# Altium schematic symbol library WE-LHMI.SchLib: 193 symbols (part 4 of 4)
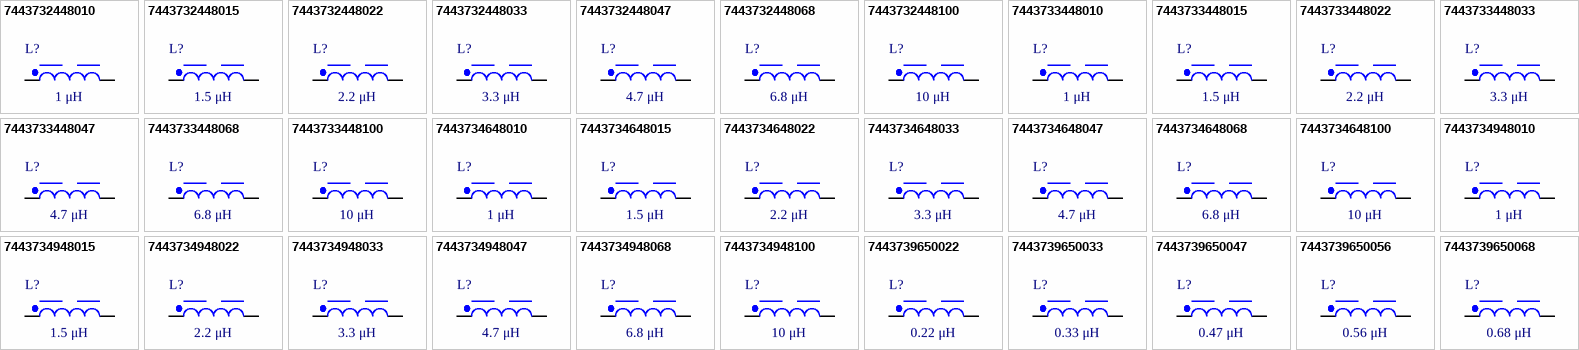
[diagram p7: symbols 7443732448010 to 7443739650068]

## 7443732448047
designator L?, comment 4.7 μH
WE-LHMI SMT Power Inductor, size 4020 HT, 4.7 μH, 3.3 A, 115 mΩ; Manufacturer Part Number: 7443732448047; Manufacturer: Wurth Elektronik; Case/Size Code: 4020 HT; DC Resistance Max: 115 mΩ; Performance Rated Current: 3.3 A; Saturation Current @ 10%: 2.2 A; Saturation Current @ 30%: 4.7 A; Self Resonant Frequency: 25 MHz; Category: Power Inductors; Match Code: WE-LHMI; ComponentLink1Description: Website Link; ComponentLink1URL: https://www.we-online.com/redexpert/article/7443732448047?ad; ComponentLink2Description: Datasheet Link; ComponentLink2URL: https://www.we-online.com/redexpert/spec/7443732448047?ad; Mount: Surface Mount; Min Operating Temperature: -55 °C; Max Operating Temperature: 150 °C; Packaging: Tape and Reel; Length: 4.45 mm; Width: 4.06 mm; Height: 1.8 mm; Inductance: 4.7 μH
footprint WE-LHMI_4020 HT
simulation model 4020HT_7443732448047_4.7u
pins: 1, 2

## 7443732448068
designator L?, comment 6.8 μH
WE-LHMI SMT Power Inductor, size 4020 HT, 6.8 μH, 2.7 A, 228 mΩ; Manufacturer Part Number: 7443732448068; Manufacturer: Wurth Elektronik; Case/Size Code: 4020 HT; DC Resistance Max: 228 mΩ; Performance Rated Current: 2.7 A; Saturation Current @ 10%: 1.6 A; Saturation Current @ 30%: 3 A; Self Resonant Frequency: 19 MHz; Category: Power Inductors; Match Code: WE-LHMI; ComponentLink1Description: Website Link; ComponentLink1URL: https://www.we-online.com/redexpert/article/7443732448068?ad; ComponentLink2Description: Datasheet Link; ComponentLink2URL: https://www.we-online.com/redexpert/spec/7443732448068?ad; Mount: Surface Mount; Min Operating Temperature: -55 °C; Max Operating Temperature: 150 °C; Packaging: Tape and Reel; Length: 4.45 mm; Width: 4.06 mm; Height: 1.8 mm; Inductance: 6.8 μH
footprint WE-LHMI_4020 HT
simulation model 4020HT_7443732448068_6.8u
pins: 1, 2

## 7443732448100
designator L?, comment 10 μH
WE-LHMI SMT Power Inductor, size 4020 HT, 10 μH, 2.4 A, 243 mΩ; Manufacturer Part Number: 7443732448100; Manufacturer: Wurth Elektronik; Case/Size Code: 4020 HT; DC Resistance Max: 243 mΩ; Performance Rated Current: 2.4 A; Saturation Current @ 10%: 1 A; Self Resonant Frequency: 16 MHz; Category: Power Inductors; Match Code: WE-LHMI; ComponentLink1Description: Website Link; ComponentLink1URL: https://www.we-online.com/redexpert/article/7443732448100?ad; ComponentLink2Description: Datasheet Link; ComponentLink2URL: https://www.we-online.com/redexpert/spec/7443732448100?ad; Mount: Surface Mount; Min Operating Temperature: -55 °C; Max Operating Temperature: 150 °C; Packaging: Tape and Reel; Length: 4.45 mm; Width: 4.06 mm; Height: 1.8 mm; Inductance: 10 μH; Saturation Current @ 30%: 2.4 A
footprint WE-LHMI_4020 HT
simulation model 4020HT_7443732448100_10u
pins: 1, 2

## 7443733448010
designator L?, comment 1 μH
WE-LHMI SMT Power Inductor, size 5020 HT, 1 μH, 9.5 A, 17.5 mΩ; Manufacturer Part Number: 7443733448010; Manufacturer: Wurth Elektronik; Case/Size Code: 5020 HT; DC Resistance Max: 17.5 mΩ; Performance Rated Current: 9.5 A; Saturation Current @ 10%: 5.4 A; Saturation Current @ 30%: 12 A; Self Resonant Frequency: 62 MHz; Category: Power Inductors; Match Code: WE-LHMI; ComponentLink1Description: Website Link; ComponentLink1URL: https://www.we-online.com/redexpert/article/7443733448010?ad; ComponentLink2Description: Datasheet Link; ComponentLink2URL: https://www.we-online.com/redexpert/spec/7443733448010?ad; Mount: Surface Mount; Min Operating Temperature: -55 °C; Max Operating Temperature: 150 °C; Packaging: Tape and Reel; Length: 5.7 mm; Width: 5.2 mm; Height: 1.8 mm; Inductance: 1 μH
footprint WE-LHMI_5020 HT
simulation model 5020HT_7443733448010_1u
pins: 1, 2

## 7443733448015
designator L?, comment 1.5 μH
WE-LHMI SMT Power Inductor, size 5020 HT, 1.5 μH, 5.7 A, 43 mΩ; Manufacturer Part Number: 7443733448015; Manufacturer: Wurth Elektronik; Case/Size Code: 5020 HT; DC Resistance Max: 43 mΩ; Performance Rated Current: 5.7 A; Saturation Current @ 10%: 4.2 A; Saturation Current @ 30%: 9.5 A; Self Resonant Frequency: 54 MHz; Category: Power Inductors; Match Code: WE-LHMI; ComponentLink1Description: Website Link; ComponentLink1URL: https://www.we-online.com/redexpert/article/7443733448015?ad; ComponentLink2Description: Datasheet Link; ComponentLink2URL: https://www.we-online.com/redexpert/spec/7443733448015?ad; Mount: Surface Mount; Min Operating Temperature: -55 °C; Max Operating Temperature: 150 °C; Packaging: Tape and Reel; Length: 5.7 mm; Width: 5.2 mm; Height: 1.8 mm; Inductance: 1.5 μH
footprint WE-LHMI_5020 HT
simulation model 5020HT_7443733448015_1.5u
pins: 1, 2

## 7443733448022
designator L?, comment 2.2 μH
WE-LHMI SMT Power Inductor, size 5020 HT, 2.2 μH, 6 A, 38 mΩ; Manufacturer Part Number: 7443733448022; Manufacturer: Wurth Elektronik; Case/Size Code: 5020 HT; DC Resistance Max: 38 mΩ; Performance Rated Current: 6 A; Saturation Current @ 10%: 3 A; Saturation Current @ 30%: 6.7 A; Self Resonant Frequency: 40 MHz; Category: Power Inductors; Match Code: WE-LHMI; ComponentLink1Description: Website Link; ComponentLink1URL: https://www.we-online.com/redexpert/article/7443733448022?ad; ComponentLink2Description: Datasheet Link; ComponentLink2URL: https://www.we-online.com/redexpert/spec/7443733448022?ad; Mount: Surface Mount; Min Operating Temperature: -55 °C; Max Operating Temperature: 150 °C; Packaging: Tape and Reel; Length: 5.7 mm; Width: 5.2 mm; Height: 1.8 mm; Inductance: 2.2 μH
footprint WE-LHMI_5020 HT
simulation model 5020HT_7443733448022_2.2u
pins: 1, 2

## 7443733448033
designator L?, comment 3.3 μH
WE-LHMI SMT Power Inductor, size 5020 HT, 3.3 μH, 4.9 A, 60 mΩ; Manufacturer Part Number: 7443733448033; Manufacturer: Wurth Elektronik; Case/Size Code: 5020 HT; DC Resistance Max: 60 mΩ; Performance Rated Current: 4.9 A; Saturation Current @ 10%: 2.8 A; Saturation Current @ 30%: 6.5 A; Self Resonant Frequency: 36 MHz; Category: Power Inductors; Match Code: WE-LHMI; ComponentLink1Description: Website Link; ComponentLink1URL: https://www.we-online.com/redexpert/article/7443733448033?ad; ComponentLink2Description: Datasheet Link; ComponentLink2URL: https://www.we-online.com/redexpert/spec/7443733448033?ad; Mount: Surface Mount; Min Operating Temperature: -55 °C; Max Operating Temperature: 150 °C; Packaging: Tape and Reel; Length: 5.7 mm; Width: 5.2 mm; Height: 1.8 mm; Inductance: 3.3 μH
footprint WE-LHMI_5020 HT
simulation model 5020HT_7443733448033_3.3u
pins: 1, 2

## 7443733448047
designator L?, comment 4.7 μH
WE-LHMI SMT Power Inductor, size 5020 HT, 4.7 μH, 3.6 A, 88 mΩ; Manufacturer Part Number: 7443733448047; Manufacturer: Wurth Elektronik; Case/Size Code: 5020 HT; DC Resistance Max: 88 mΩ; Performance Rated Current: 3.6 A; Saturation Current @ 10%: 2.6 A; Saturation Current @ 30%: 5.8 A; Self Resonant Frequency: 30 MHz; Category: Power Inductors; Match Code: WE-LHMI; ComponentLink1Description: Website Link; ComponentLink1URL: https://www.we-online.com/redexpert/article/7443733448047?ad; ComponentLink2Description: Datasheet Link; ComponentLink2URL: https://www.we-online.com/redexpert/spec/7443733448047?ad; Mount: Surface Mount; Min Operating Temperature: -55 °C; Max Operating Temperature: 150 °C; Packaging: Tape and Reel; Length: 5.7 mm; Width: 5.2 mm; Height: 1.8 mm; Inductance: 4.7 μH
footprint WE-LHMI_5020 HT
simulation model 5020HT_7443733448047_4.7u
pins: 1, 2

## 7443733448068
designator L?, comment 6.8 μH
WE-LHMI SMT Power Inductor, size 5020 HT, 6.8 μH, 3.5 A, 159 mΩ; Manufacturer Part Number: 7443733448068; Manufacturer: Wurth Elektronik; Case/Size Code: 5020 HT; DC Resistance Max: 159 mΩ; Performance Rated Current: 3.5 A; Saturation Current @ 10%: 1.9 A; Saturation Current @ 30%: 4.5 A; Self Resonant Frequency: 26 MHz; Category: Power Inductors; Match Code: WE-LHMI; ComponentLink1Description: Website Link; ComponentLink1URL: https://www.we-online.com/redexpert/article/7443733448068?ad; ComponentLink2Description: Datasheet Link; ComponentLink2URL: https://www.we-online.com/redexpert/spec/7443733448068?ad; Mount: Surface Mount; Min Operating Temperature: -55 °C; Max Operating Temperature: 150 °C; Packaging: Tape and Reel; Length: 5.7 mm; Width: 5.2 mm; Height: 1.8 mm; Inductance: 6.8 μH
footprint WE-LHMI_5020 HT
simulation model 5020HT_7443733448068_6.8u
pins: 1, 2

## 7443733448100
designator L?, comment 10 μH
WE-LHMI SMT Power Inductor, size 5020 HT, 10 μH, 2.6 A, 230 mΩ; Manufacturer Part Number: 7443733448100; Manufacturer: Wurth Elektronik; Case/Size Code: 5020 HT; DC Resistance Max: 230 mΩ; Performance Rated Current: 2.6 A; Saturation Current @ 10%: 1.2 A; Saturation Current @ 30%: 3 A; Self Resonant Frequency: 20 MHz; Category: Power Inductors; Match Code: WE-LHMI; ComponentLink1Description: Website Link; ComponentLink1URL: https://www.we-online.com/redexpert/article/7443733448100?ad; ComponentLink2Description: Datasheet Link; ComponentLink2URL: https://www.we-online.com/redexpert/spec/7443733448100?ad; Mount: Surface Mount; Min Operating Temperature: -55 °C; Max Operating Temperature: 150 °C; Packaging: Tape and Reel; Length: 5.7 mm; Width: 5.2 mm; Height: 1.8 mm; Inductance: 10 μH
footprint WE-LHMI_5020 HT
simulation model 5020HT_7443733448100_10u
pins: 1, 2

## 7443734648010
designator L?, comment 1 μH
WE-LHMI SMT Power Inductor, size 7030 HT, 1 μH, 13.5 A, 7.4 mΩ; Manufacturer Part Number: 7443734648010; Manufacturer: Wurth Elektronik; Case/Size Code: 7030 HT; DC Resistance Max: 7.4 mΩ; Performance Rated Current: 13.5 A; Saturation Current @ 10%: 8.5 A; Saturation Current @ 30%: 18.5 A; Self Resonant Frequency: 53 MHz; Category: Power Inductors; Match Code: WE-LHMI; ComponentLink1Description: Website Link; ComponentLink1URL: https://www.we-online.com/redexpert/article/7443734648010?ad; ComponentLink2Description: Datasheet Link; ComponentLink2URL: https://www.we-online.com/redexpert/spec/7443734648010?ad; Mount: Surface Mount; Min Operating Temperature: -55 °C; Max Operating Temperature: 150 °C; Packaging: Tape and Reel; Length: 7.3 mm; Width: 6.6 mm; Height: 2.8 mm; Inductance: 1 μH
footprint WE-LHMI_7030 HT
simulation model 7030HT_7443734648010_1u
pins: 1, 2

## 7443734648015
designator L?, comment 1.5 μH
WE-LHMI SMT Power Inductor, size 7030 HT, 1.5 μH, 11.8 A, 12.1 mΩ; Manufacturer Part Number: 7443734648015; Manufacturer: Wurth Elektronik; Case/Size Code: 7030 HT; DC Resistance Max: 12.1 mΩ; Performance Rated Current: 11.8 A; Saturation Current @ 10%: 8 A; Saturation Current @ 30%: 17 A; Self Resonant Frequency: 44 MHz; Category: Power Inductors; Match Code: WE-LHMI; ComponentLink1Description: Website Link; ComponentLink1URL: https://www.we-online.com/redexpert/article/7443734648015?ad; ComponentLink2Description: Datasheet Link; ComponentLink2URL: https://www.we-online.com/redexpert/spec/7443734648015?ad; Mount: Surface Mount; Min Operating Temperature: -55 °C; Max Operating Temperature: 150 °C; Packaging: Tape and Reel; Length: 7.3 mm; Width: 6.6 mm; Height: 2.8 mm; Inductance: 1.5 μH
footprint WE-LHMI_7030 HT
simulation model 7030HT_7443734648015_1.5u
pins: 1, 2

## 7443734648022
designator L?, comment 2.2 μH
WE-LHMI SMT Power Inductor, size 7030 HT, 2.2 μH, 9.7 A, 17 mΩ; Manufacturer Part Number: 7443734648022; Manufacturer: Wurth Elektronik; Case/Size Code: 7030 HT; DC Resistance Max: 17 mΩ; Performance Rated Current: 9.7 A; Saturation Current @ 10%: 6.8 A; Saturation Current @ 30%: 14.7 A; Self Resonant Frequency: 34 MHz; Category: Power Inductors; Match Code: WE-LHMI; ComponentLink1Description: Website Link; ComponentLink1URL: https://www.we-online.com/redexpert/article/7443734648022?ad; ComponentLink2Description: Datasheet Link; ComponentLink2URL: https://www.we-online.com/redexpert/spec/7443734648022?ad; Mount: Surface Mount; Min Operating Temperature: -55 °C; Max Operating Temperature: 150 °C; Packaging: Tape and Reel; Length: 7.3 mm; Width: 6.6 mm; Height: 2.8 mm; Inductance: 2.2 μH
footprint WE-LHMI_7030 HT
simulation model 7030HT_7443734648022_2.2u
pins: 1, 2

## 7443734648033
designator L?, comment 3.3 μH
WE-LHMI SMT Power Inductor, size 7030 HT, 3.3 μH, 7.6 A, 22 mΩ; Manufacturer Part Number: 7443734648033; Manufacturer: Wurth Elektronik; Case/Size Code: 7030 HT; DC Resistance Max: 22 mΩ; Performance Rated Current: 7.6 A; Saturation Current @ 10%: 5.6 A; Saturation Current @ 30%: 10.8 A; Self Resonant Frequency: 28 MHz; Category: Power Inductors; Match Code: WE-LHMI; ComponentLink1Description: Website Link; ComponentLink1URL: https://www.we-online.com/redexpert/article/7443734648033?ad; ComponentLink2Description: Datasheet Link; ComponentLink2URL: https://www.we-online.com/redexpert/spec/7443734648033?ad; Mount: Surface Mount; Min Operating Temperature: -55 °C; Max Operating Temperature: 150 °C; Packaging: Tape and Reel; Length: 7.3 mm; Width: 6.6 mm; Height: 2.8 mm; Inductance: 3.3 μH
footprint WE-LHMI_7030 HT
simulation model 7030HT_7443734648033_3.3u
pins: 1, 2

## 7443734648047
designator L?, comment 4.7 μH
WE-LHMI SMT Power Inductor, size 7030 HT, 4.7 μH, 6.1 A, 40 mΩ; Manufacturer Part Number: 7443734648047; Manufacturer: Wurth Elektronik; Case/Size Code: 7030 HT; DC Resistance Max: 40 mΩ; Performance Rated Current: 6.1 A; Saturation Current @ 10%: 4.4 A; Saturation Current @ 30%: 9.8 A; Self Resonant Frequency: 24 MHz; Category: Power Inductors; Match Code: WE-LHMI; ComponentLink1Description: Website Link; ComponentLink1URL: https://www.we-online.com/redexpert/article/7443734648047?ad; ComponentLink2Description: Datasheet Link; ComponentLink2URL: https://www.we-online.com/redexpert/spec/7443734648047?ad; Mount: Surface Mount; Min Operating Temperature: -55 °C; Max Operating Temperature: 150 °C; Packaging: Tape and Reel; Length: 7.3 mm; Width: 6.6 mm; Height: 2.8 mm; Inductance: 4.7 μH
footprint WE-LHMI_7030 HT
simulation model 7030HT_7443734648047_4.7u
pins: 1, 2

## 7443734648068
designator L?, comment 6.8 μH
WE-LHMI SMT Power Inductor, size 7030 HT, 6.8 μH, 5.2 A, 48 mΩ; Manufacturer Part Number: 7443734648068; Manufacturer: Wurth Elektronik; Case/Size Code: 7030 HT; DC Resistance Max: 48 mΩ; Performance Rated Current: 5.2 A; Saturation Current @ 10%: 3.5 A; Saturation Current @ 30%: 7.6 A; Self Resonant Frequency: 19 MHz; Category: Power Inductors; Match Code: WE-LHMI; ComponentLink1Description: Website Link; ComponentLink1URL: https://www.we-online.com/redexpert/article/7443734648068?ad; ComponentLink2Description: Datasheet Link; ComponentLink2URL: https://www.we-online.com/redexpert/spec/7443734648068?ad; Mount: Surface Mount; Min Operating Temperature: -55 °C; Max Operating Temperature: 150 °C; Packaging: Tape and Reel; Length: 7.3 mm; Width: 6.6 mm; Height: 2.8 mm; Inductance: 6.8 μH
footprint WE-LHMI_7030 HT
simulation model 7030HT_7443734648068_6.8u
pins: 1, 2

## 7443734648100
designator L?, comment 10 μH
WE-LHMI SMT Power Inductor, size 7030 HT, 10 μH, 4.3 A, 78 mΩ; Manufacturer Part Number: 7443734648100; Manufacturer: Wurth Elektronik; Case/Size Code: 7030 HT; DC Resistance Max: 78 mΩ; Performance Rated Current: 4.3 A; Saturation Current @ 10%: 2.8 A; Saturation Current @ 30%: 6 A; Self Resonant Frequency: 15 MHz; Category: Power Inductors; Match Code: WE-LHMI; ComponentLink1Description: Website Link; ComponentLink1URL: https://www.we-online.com/redexpert/article/7443734648100?ad; ComponentLink2Description: Datasheet Link; ComponentLink2URL: https://www.we-online.com/redexpert/spec/7443734648100?ad; Mount: Surface Mount; Min Operating Temperature: -55 °C; Max Operating Temperature: 150 °C; Packaging: Tape and Reel; Length: 7.3 mm; Width: 6.6 mm; Height: 2.8 mm; Inductance: 10 μH
footprint WE-LHMI_7030 HT
simulation model 7030HT_7443734648100_10u
pins: 1, 2

## 7443734948010
designator L?, comment 1 μH
WE-LHMI SMT Power Inductor, size 7050 HT, 1 μH, 18 A, 6.5 mΩ; Manufacturer Part Number: 7443734948010; Manufacturer: Wurth Elektronik; Case/Size Code: 7050 HT; DC Resistance Max: 6.5 mΩ; Performance Rated Current: 18 A; Saturation Current @ 10%: 8.5 A; Saturation Current @ 30%: 17.8 A; Self Resonant Frequency: 44 MHz; Category: Power Inductors; Match Code: WE-LHMI; ComponentLink1Description: Website Link; ComponentLink1URL: https://www.we-online.com/redexpert/article/7443734948010?ad; ComponentLink2Description: Datasheet Link; ComponentLink2URL: https://www.we-online.com/redexpert/spec/7443734948010?ad; Mount: Surface Mount; Min Operating Temperature: -55 °C; Max Operating Temperature: 150 °C; Packaging: Tape and Reel; Length: 7.3 mm; Width: 6.6 mm; Height: 4.8 mm; Inductance: 1 μH
footprint WE-LHMI_7050 HT
simulation model 7050HT_7443734948010_1u
pins: 1, 2

## 7443734948015
designator L?, comment 1.5 μH
WE-LHMI SMT Power Inductor, size 7050 HT, 1.5 μH, 15.8 A, 8.5 mΩ; Manufacturer Part Number: 7443734948015; Manufacturer: Wurth Elektronik; Case/Size Code: 7050 HT; DC Resistance Max: 8.5 mΩ; Performance Rated Current: 15.8 A; Saturation Current @ 10%: 7.5 A; Saturation Current @ 30%: 15.5 A; Self Resonant Frequency: 38 MHz; Category: Power Inductors; Match Code: WE-LHMI; ComponentLink1Description: Website Link; ComponentLink1URL: https://www.we-online.com/redexpert/article/7443734948015?ad; ComponentLink2Description: Datasheet Link; ComponentLink2URL: https://www.we-online.com/redexpert/spec/7443734948015?ad; Mount: Surface Mount; Min Operating Temperature: -55 °C; Max Operating Temperature: 150 °C; Packaging: Tape and Reel; Length: 7.3 mm; Width: 6.6 mm; Height: 4.8 mm; Inductance: 1.5 μH
footprint WE-LHMI_7050 HT
simulation model 7050HT_7443734948015_1.5u
pins: 1, 2

## 7443734948022
designator L?, comment 2.2 μH
WE-LHMI SMT Power Inductor, size 7050 HT, 2.2 μH, 12.3 A, 14 mΩ; Manufacturer Part Number: 7443734948022; Manufacturer: Wurth Elektronik; Case/Size Code: 7050 HT; DC Resistance Max: 14 mΩ; Performance Rated Current: 12.3 A; Saturation Current @ 10%: 6.5 A; Saturation Current @ 30%: 12.8 A; Self Resonant Frequency: 31 MHz; Category: Power Inductors; Match Code: WE-LHMI; ComponentLink1Description: Website Link; ComponentLink1URL: https://www.we-online.com/redexpert/article/7443734948022?ad; ComponentLink2Description: Datasheet Link; ComponentLink2URL: https://www.we-online.com/redexpert/spec/7443734948022?ad; Mount: Surface Mount; Min Operating Temperature: -55 °C; Max Operating Temperature: 150 °C; Packaging: Tape and Reel; Length: 7.3 mm; Width: 6.6 mm; Height: 4.8 mm; Inductance: 2.2 μH
footprint WE-LHMI_7050 HT
simulation model 7050HT_7443734948022_2.2u
pins: 1, 2

## 7443734948033
designator L?, comment 3.3 μH
WE-LHMI SMT Power Inductor, size 7050 HT, 3.3 μH, 10.6 A, 23 mΩ; Manufacturer Part Number: 7443734948033; Manufacturer: Wurth Elektronik; Case/Size Code: 7050 HT; DC Resistance Max: 23 mΩ; Performance Rated Current: 10.6 A; Saturation Current @ 10%: 5.6 A; Saturation Current @ 30%: 11.8 A; Self Resonant Frequency: 26 MHz; Category: Power Inductors; Match Code: WE-LHMI; ComponentLink1Description: Website Link; ComponentLink1URL: https://www.we-online.com/redexpert/article/7443734948033?ad; ComponentLink2Description: Datasheet Link; ComponentLink2URL: https://www.we-online.com/redexpert/spec/7443734948033?ad; Mount: Surface Mount; Min Operating Temperature: -55 °C; Max Operating Temperature: 150 °C; Packaging: Tape and Reel; Length: 7.3 mm; Width: 6.6 mm; Height: 4.8 mm; Inductance: 3.3 μH
footprint WE-LHMI_7050 HT
simulation model 7050HT_7443734948033_3.3u
pins: 1, 2

## 7443734948047
designator L?, comment 4.7 μH
WE-LHMI SMT Power Inductor, size 7050 HT, 4.7 μH, 8.5 A, 31 mΩ; Manufacturer Part Number: 7443734948047; Manufacturer: Wurth Elektronik; Case/Size Code: 7050 HT; DC Resistance Max: 31 mΩ; Performance Rated Current: 8.5 A; Saturation Current @ 10%: 5.2 A; Saturation Current @ 30%: 11.4 A; Self Resonant Frequency: 20 MHz; Category: Power Inductors; Match Code: WE-LHMI; ComponentLink1Description: Website Link; ComponentLink1URL: https://www.we-online.com/redexpert/article/7443734948047?ad; ComponentLink2Description: Datasheet Link; ComponentLink2URL: https://www.we-online.com/redexpert/spec/7443734948047?ad; Mount: Surface Mount; Min Operating Temperature: -55 °C; Max Operating Temperature: 150 °C; Packaging: Tape and Reel; Length: 7.3 mm; Width: 6.6 mm; Height: 4.8 mm; Inductance: 4.7 μH
footprint WE-LHMI_7050 HT
simulation model 7050HT_7443734948047_4.7u
pins: 1, 2

## 7443734948068
designator L?, comment 6.8 μH
WE-LHMI SMT Power Inductor, size 7050 HT, 6.8 μH, 7.5 A, 34 mΩ; Manufacturer Part Number: 7443734948068; Manufacturer: Wurth Elektronik; Case/Size Code: 7050 HT; DC Resistance Max: 34 mΩ; Performance Rated Current: 7.5 A; Saturation Current @ 10%: 4 A; Saturation Current @ 30%: 8.4 A; Self Resonant Frequency: 16 MHz; Category: Power Inductors; Match Code: WE-LHMI; ComponentLink1Description: Website Link; ComponentLink1URL: https://www.we-online.com/redexpert/article/7443734948068?ad; ComponentLink2Description: Datasheet Link; ComponentLink2URL: https://www.we-online.com/redexpert/spec/7443734948068?ad; Mount: Surface Mount; Min Operating Temperature: -55 °C; Max Operating Temperature: 150 °C; Packaging: Tape and Reel; Length: 7.3 mm; Width: 6.6 mm; Height: 4.8 mm; Inductance: 6.8 μH
footprint WE-LHMI_7050 HT
simulation model 7050HT_7443734948068_6.8u
pins: 1, 2

## 7443734948100
designator L?, comment 10 μH
WE-LHMI SMT Power Inductor, size 7050 HT, 10 μH, 6.6 A, 50 mΩ; Manufacturer Part Number: 7443734948100; Manufacturer: Wurth Elektronik; Case/Size Code: 7050 HT; DC Resistance Max: 50 mΩ; Performance Rated Current: 6.6 A; Saturation Current @ 10%: 3.7 A; Saturation Current @ 30%: 8 A; Self Resonant Frequency: 12 MHz; Category: Power Inductors; Match Code: WE-LHMI; ComponentLink1Description: Website Link; ComponentLink1URL: https://www.we-online.com/redexpert/article/7443734948100?ad; ComponentLink2Description: Datasheet Link; ComponentLink2URL: https://www.we-online.com/redexpert/spec/7443734948100?ad; Mount: Surface Mount; Min Operating Temperature: -55 °C; Max Operating Temperature: 150 °C; Packaging: Tape and Reel; Length: 7.3 mm; Width: 6.6 mm; Height: 4.8 mm; Inductance: 10 μH
footprint WE-LHMI_7050 HT
simulation model 7050HT_7443734948100_10u
pins: 1, 2

## 7443739650022
designator L?, comment 0.22 μH
WE-LHMI SMT Power Inductor, size 1365, 0.22 μH, 54.9 A, 0.6 mΩ; Manufacturer Part Number: 7443739650022; Manufacturer: Wurth Elektronik; Case/Size Code: 1365; DC Resistance Max: 0.6 mΩ; Performance Rated Current: 54.9 A; Saturation Current @ 10%: 81.5 A; Saturation Current @ 30%: 120 A; Self Resonant Frequency: 112.3 MHz; Category: Power Inductors; Match Code: WE-LHMI; ComponentLink1Description: Website Link; ComponentLink1URL: https://www.we-online.com/redexpert/article/7443739650022?ad; ComponentLink2Description: Datasheet Link; ComponentLink2URL: https://www.we-online.com/redexpert/spec/7443739650022?ad; Mount: Surface Mount; Min Operating Temperature: -40 °C; Max Operating Temperature: 125 °C; Packaging: Tape and Reel; Length: 13.65 mm; Width: 12.5 mm; Height: 6.2 mm; Inductance: 0.22 μH
footprint WE-LHMI_1365
simulation model 1365_7443739650022_0.22u
pins: 1, 2

## 7443739650033
designator L?, comment 0.33 μH
WE-LHMI SMT Power Inductor, size 1365, 0.33 μH, 49 A, 0.8 mΩ; Manufacturer Part Number: 7443739650033; Manufacturer: Wurth Elektronik; Case/Size Code: 1365; DC Resistance Max: 0.8 mΩ; Performance Rated Current: 49 A; Saturation Current @ 10%: 57.5 A; Saturation Current @ 30%: 108.6 A; Self Resonant Frequency: 74.7 MHz; Category: Power Inductors; Match Code: WE-LHMI; ComponentLink1Description: Website Link; ComponentLink1URL: https://www.we-online.com/redexpert/article/7443739650033?ad; ComponentLink2Description: Datasheet Link; ComponentLink2URL: https://www.we-online.com/redexpert/spec/7443739650033?ad; Mount: Surface Mount; Min Operating Temperature: -40 °C; Max Operating Temperature: 125 °C; Packaging: Tape and Reel; Length: 13.65 mm; Width: 12.5 mm; Height: 6.2 mm; Inductance: 0.33 μH
footprint WE-LHMI_1365
simulation model 1365_7443739650033_0.33u
pins: 1, 2

## 7443739650047
designator L?, comment 0.47 μH
WE-LHMI SMT Power Inductor, size 1365, 0.47 μH, 40.7 A, 1.2 mΩ; Manufacturer Part Number: 7443739650047; Manufacturer: Wurth Elektronik; Case/Size Code: 1365; DC Resistance Max: 1.2 mΩ; Performance Rated Current: 40.7 A; Saturation Current @ 10%: 49.7 A; Saturation Current @ 30%: 99.4 A; Self Resonant Frequency: 60 MHz; Category: Power Inductors; Match Code: WE-LHMI; ComponentLink1Description: Website Link; ComponentLink1URL: https://www.we-online.com/redexpert/article/7443739650047?ad; ComponentLink2Description: Datasheet Link; ComponentLink2URL: https://www.we-online.com/redexpert/spec/7443739650047?ad; Mount: Surface Mount; Min Operating Temperature: -40 °C; Max Operating Temperature: 125 °C; Packaging: Tape and Reel; Length: 13.65 mm; Width: 12.5 mm; Height: 6.2 mm; Inductance: 0.47 μH
footprint WE-LHMI_1365
simulation model 1365_7443739650047_0.47u
pins: 1, 2

## 7443739650056
designator L?, comment 0.56 μH
WE-LHMI SMT Power Inductor, size 1365, 0.56 μH, 37.1 A, 1.2 mΩ; Manufacturer Part Number: 7443739650056; Manufacturer: Wurth Elektronik; Case/Size Code: 1365; DC Resistance Max: 1.2 mΩ; Performance Rated Current: 37.1 A; Saturation Current @ 10%: 36.3 A; Saturation Current @ 30%: 68.3 A; Self Resonant Frequency: 51.7 MHz; Category: Power Inductors; Match Code: WE-LHMI; ComponentLink1Description: Website Link; ComponentLink1URL: https://www.we-online.com/redexpert/article/7443739650056?ad; ComponentLink2Description: Datasheet Link; ComponentLink2URL: https://www.we-online.com/redexpert/spec/7443739650056?ad; Mount: Surface Mount; Min Operating Temperature: -40 °C; Max Operating Temperature: 125 °C; Packaging: Tape and Reel; Length: 13.65 mm; Width: 12.5 mm; Height: 6.2 mm; Inductance: 0.56 μH
footprint WE-LHMI_1365
simulation model 1365_7443739650056_0.56u
pins: 1, 2

## 7443739650068
designator L?, comment 0.68 μH
WE-LHMI SMT Power Inductor, size 1365, 0.68 μH, 35.6 A, 1.5 mΩ; Manufacturer Part Number: 7443739650068; Manufacturer: Wurth Elektronik; Case/Size Code: 1365; DC Resistance Max: 1.5 mΩ; Performance Rated Current: 35.6 A; Saturation Current @ 10%: 35.7 A; Saturation Current @ 30%: 67.4 A; Self Resonant Frequency: 51.1 MHz; Category: Power Inductors; Match Code: WE-LHMI; ComponentLink1Description: Website Link; ComponentLink1URL: https://www.we-online.com/redexpert/article/7443739650068?ad; ComponentLink2Description: Datasheet Link; ComponentLink2URL: https://www.we-online.com/redexpert/spec/7443739650068?ad; Mount: Surface Mount; Min Operating Temperature: -40 °C; Max Operating Temperature: 125 °C; Packaging: Tape and Reel; Length: 13.65 mm; Width: 12.5 mm; Height: 6.2 mm; Inductance: 0.68 μH
footprint WE-LHMI_1365
simulation model 1365_7443739650068_0.68u
pins: 1, 2